# Altium footprint library 28Pin_pcblib.PcbLib: 7 footprints
Each footprint in its own frame and in the unit in brackets; x right, y up, seen from the top. Pads: shape width x height; smd on the part's side, far side on the other; paste and mask are expansions set on the pad; w line width, h text height; cw(c..) or ccw(c..) is an arc to the next point about the centre after c.
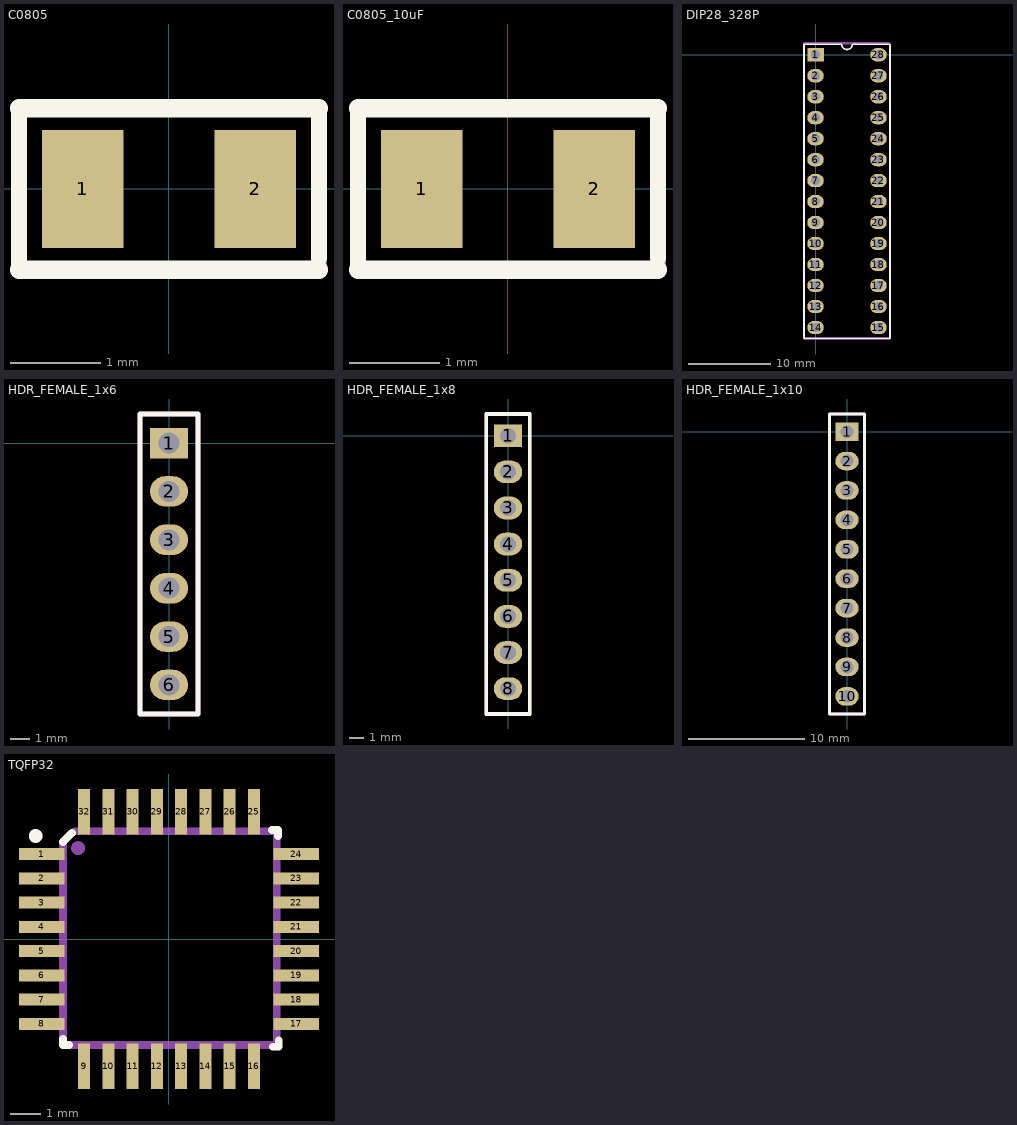
[diagram p0: the footprints below, top view; thin cyan lines are the x and y axes]

## C0805 [mm]
pads (2):
  rect 0.9x1.3 smd: 1(-0.95,0) 2(0.95,0)
Top Overlay:
  lines w0.178: -1.651,-0.889 -1.651,0.889 ; 1.651,-0.762 1.651,0.889
  lines w0.2: -1.651,-0.889 1.651,-0.889 ; -1.651,0.889 1.651,0.889
Mechanical 29:
  lines w0.178: -1.651,-0.889 1.651,-0.889 1.651,0.889 -1.651,0.889 -1.651,-0.762
  text ".Designator" at -2.413,-0.429 h1
3D body "CAPC2012X95N EIA 0805.step": height 0.96, standoff 0.01, extent -0.984,-0.6 1.016,0.6

## C0805_10uF [mm]
pads (2):
  rect 0.9x1.3 smd: 1(-0.95,0) 2(0.95,0)
Top Overlay:
  lines w0.178: -1.651,-0.889 -1.651,0.889 ; 1.651,-0.762 1.651,0.889
  lines w0.2: -1.651,-0.889 1.651,-0.889 ; -1.651,0.889 1.651,0.889
Mechanical 29:
  lines w0.178: -1.651,-0.889 1.651,-0.889 1.651,0.889 -1.651,0.889 -1.651,-0.762
  text ".Designator" at -2.413,-0.429 h1
3D body "CAPC2012X95N EIA 0805.step": height 0.96, standoff 0.01, extent -1.05,-0.65 0.95,0.55
3D body "CAPC2012X95N EIA 0805.step": height 1.46, standoff 0.51, extent -1.05,-0.65 0.95,0.55

## DIP28_328P [mm]
pads (28):
  rect 2x1.6 hole 1.1: 1(0,0)
  oval 2x1.6 hole 1.1: 2(0,-2.54) 3(0,-5.08) 4(0,-7.62) 5(0,-10.16) 6(0,-12.7) 7(0,-15.24) 8(0,-17.78) 9(0,-20.32) 10(0,-22.86) 11(0,-25.4) 12(0,-27.94) 13(0,-30.48) 14(0,-33.02) 15(7.62,-33.02) 16(7.62,-30.48) 17(7.62,-27.94) 18(7.62,-25.4) 19(7.62,-22.86) 20(7.62,-20.32) 21(7.62,-17.78) 22(7.62,-15.24) 23(7.62,-12.7) 24(7.62,-10.16) 25(7.62,-7.62) 26(7.62,-5.08) 27(7.62,-2.54) 28(7.62,0)
Bottom Layer:
  circle w0.254: c0,0 r0.597
Top Overlay:
  lines w0.2: -1.39,-34.31 1.21,-34.31 6.41,-34.31 9.01,-34.31 9.01,1.27 4.445,1.27 cw(c3.81,1.27) 3.175,1.27 -1.39,1.27 -1.39,-34.31
Mechanical 29:
  lines w0.254: -1.39,1.29 -1.39,-34.31 -1.29,-34.41 8.91,-34.41 9.01,-34.31 9.01,1.19 8.81,1.39 -1.39,1.39
  text ".Designator" at 4.19,-26.407 h2
3D body "User Library-28 pin dip-1.step": height 4.65, standoff -1.57, extent -0.027,-34.51 7.847,1.431

## HDR_FEMALE_1x6 [mm]
pads (6):
  rect 2x1.6 hole 1.1: 1(0,0)
  oval 2x1.6 hole 1.1: 2(0,-2.54) 3(0,-5.08) 4(0,-7.62) 5(0,-10.16) 6(0,-12.7)
Top Overlay:
  lines w0.254: -1.524,-14.224 -0.762,-14.224 0.762,-14.224 1.524,-14.224 ; -1.524,-14.224 1.524,-14.224 ; -1.524,-14.224 -1.524,1.524 1.524,1.524 1.524,-14.224
Mechanical 29:
  circle w0.254: c0,0 r0.254
  lines w0.254: -1.524,-14.224 -0.762,-14.224 0.762,-14.224 1.524,-14.224 ; -1.524,-14.224 1.524,-14.224 ; -1.524,-14.224 -1.524,1.524 1.524,1.524 1.524,-14.224
  text ".Designator" at 0.508,-19.05 h1.52
3D body "m20-7820646_asm.stp": height 8.51, standoff -2.99, extent -1.176,-14.252 1.324,1.388

## HDR_FEMALE_1x8 [mm]
pads (8):
  rect 2x1.6 hole 1.1: 1(0,0)
  oval 2x1.6 hole 1.1: 2(0,-2.54) 3(0,-5.08) 4(0,-7.62) 5(0,-10.16) 6(0,-12.7) 7(0,-15.24) 8(0,-17.78)
Top Overlay:
  lines w0.254: -1.524,-19.558 -1.524,1.524 1.524,1.524 1.524,-19.558 0.762,-19.558 -0.762,-19.558 -1.524,-19.558
Mechanical 29:
  circle w0.254: c0,0 r0.254
  lines w0.254: -1.524,-19.558 1.524,-19.558 1.524,1.524 -1.524,1.524 -1.524,-19.558
  text ".Designator" at 0.508,-19.05 h1.52
3D body "m20-7820842_asm.stp": height 8.51, standoff -2.99, extent -1.27,-19.25 1.23,1.47

## HDR_FEMALE_1x10 [mm]
pads (10):
  rect 2x1.6 hole 1.1: 1(0,0)
  oval 2x1.6 hole 1.1: 2(0,-2.54) 3(0,-5.08) 4(0,-7.62) 5(0,-10.16) 6(0,-12.7) 7(0,-15.24) 8(0,-17.78) 9(0,-20.32) 10(0,-22.86)
Top Overlay:
  lines w0.254: -1.524,-24.384 1.524,-24.384 1.524,1.524 -1.524,1.524 -1.524,-24.384
Mechanical 29:
  circle w0.254: c0,0 r0.254
  lines w0.254: -1.524,-24.384 1.524,-24.384 1.524,1.524 -1.524,1.524 -1.524,-24.384
  text ".Designator" at 0.508,-19.05 h1.52
3D body "m20-7821046_asm.stp": height 8.51, standoff -2.99, extent -1.27,-24.33 1.23,1.47

## TQFP32 [mm]
pads (32):
  rect 1.5x0.4 smd: 1(-4.2,2.8) 2(-4.2,2) 3(-4.2,1.2) 4(-4.2,0.4) 5(-4.2,-0.4) 6(-4.2,-1.2) 7(-4.2,-2) 8(-4.2,-2.8) 17(4.2,-2.8) 18(4.2,-2) 19(4.2,-1.2) 20(4.2,-0.4) 21(4.2,0.4) 22(4.2,1.2) 23(4.2,2) 24(4.2,2.8)
  rect 0.4x1.5 smd: 9(-2.8,-4.2) 10(-2,-4.2) 11(-1.2,-4.2) 12(-0.4,-4.2) 13(0.4,-4.2) 14(1.2,-4.2) 15(2,-4.2) 16(2.8,-4.2) 25(2.8,4.2) 26(2,4.2) 27(1.2,4.2) 28(0.4,4.2) 29(-0.4,4.2) 30(-1.2,4.2) 31(-2,4.2) 32(-2.8,4.2)
Top Overlay:
  circle w0.254: c-4.4,3.4 r0.1
  lines w0.254: -3.5,-3.3 -3.5,-3.5 -3.3,-3.5 ; -3.5,3.2 -3.2,3.5 ; 3.4,3.6 3.6,3.6 3.6,3.4 ; 3.421,-3.551 3.621,-3.551 3.621,-3.351
Mechanical 29:
  circle w0.254: c-3,3 r0.1
  lines w0.254: -3.5,3.2 -3.5,-3.5 3.556,-3.5 3.556,3.556 -3.1,3.556
  text ".Designator" at -1.646,-0.538 h1.52
3D body "User Library-tqfp32.step": height 1.2, standoff 0, extent -4.599,-4.599 4.6,4.599